# Altium footprint library ProjetPcbLib1.PcbLib: 18 footprints (part 1 of 2)
Each footprint in its own frame and in the unit in brackets; x right, y up, seen from the top. Pads: shape width x height; smd on the part's side, far side on the other; paste and mask are expansions set on the pad; w line width, h text height; cw(c..) or ccw(c..) is an arc to the next point about the centre after c.
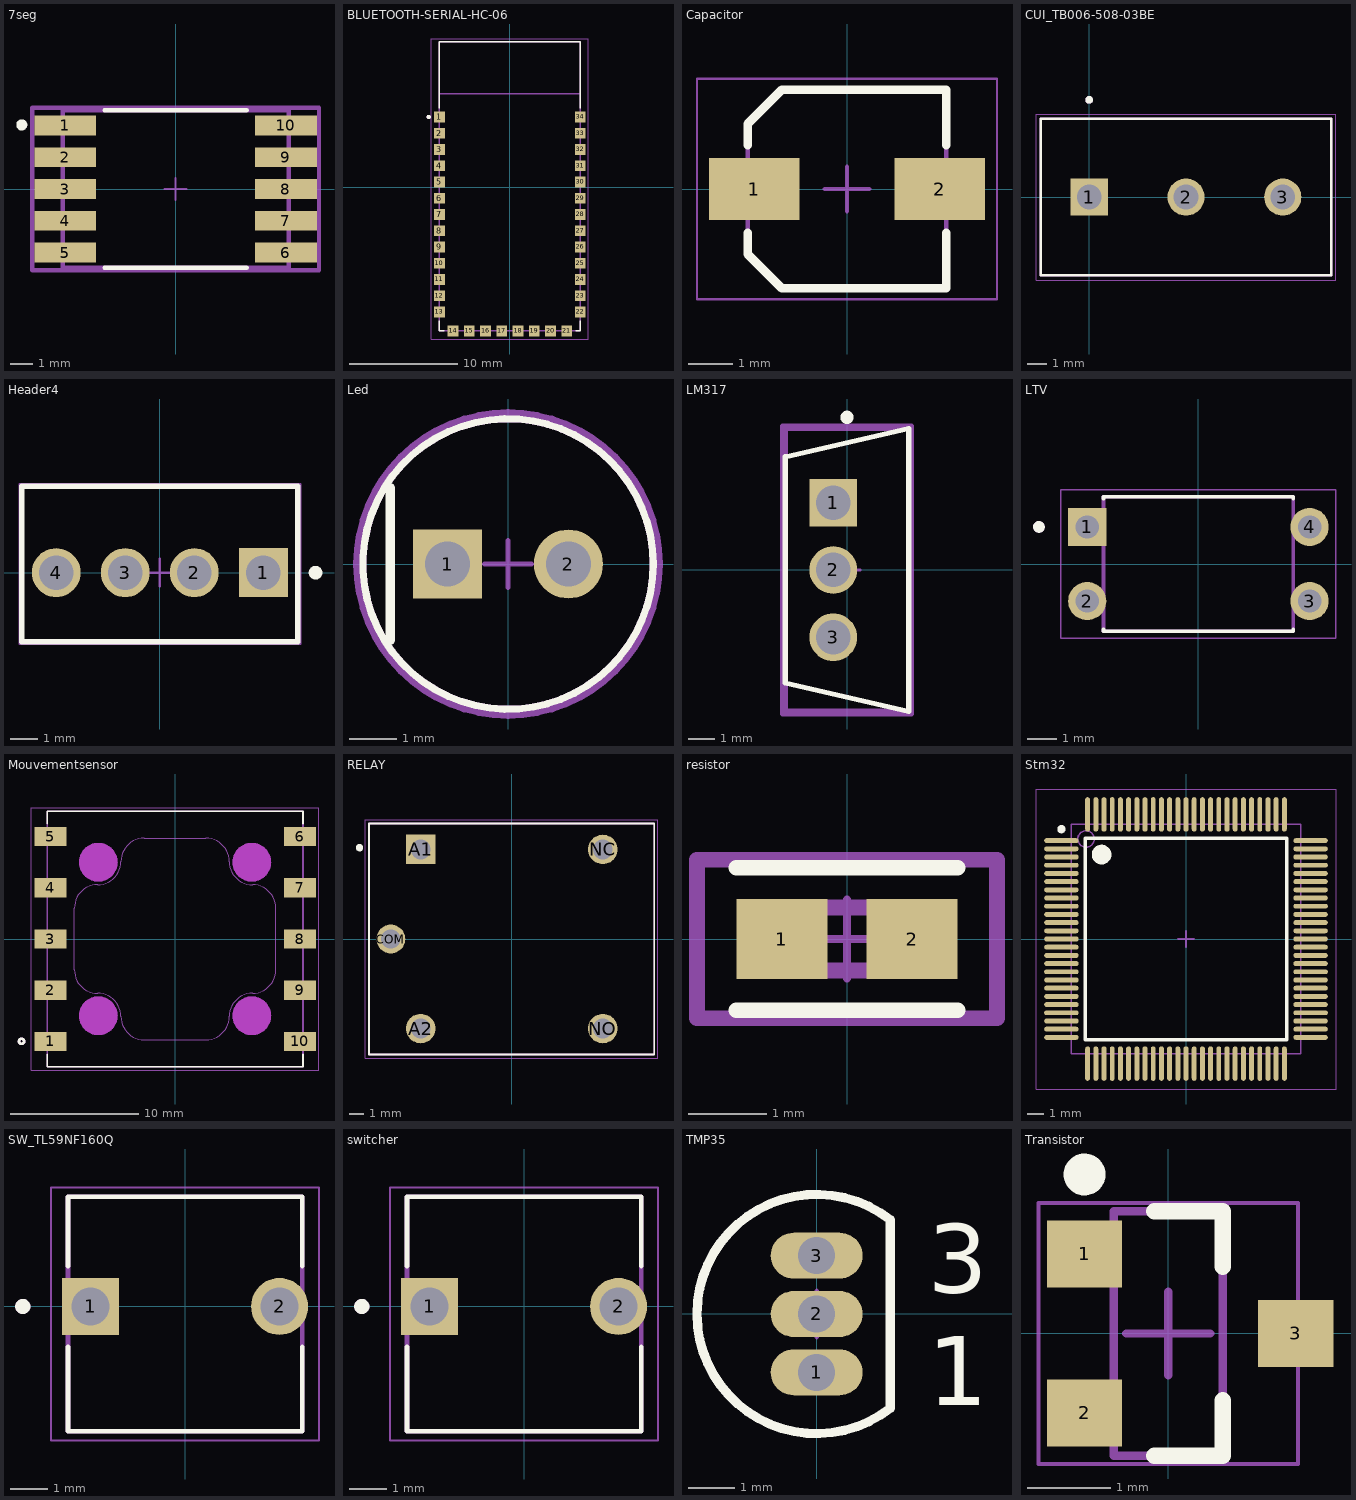
[diagram p0: the footprints below, top view; thin cyan lines are the x and y axes]

## 7seg [mm]
pads (10):
  rect 2.8x0.9 smd paste+0 mask+0: 1(-5,2.88) 2(-5,1.44) 3(-5,0) 4(-5,-1.44) 5(-5,-2.88) 6(5,-2.88) 7(5,-1.44) 8(5,0) 9(5,1.44) 10(5,2.88)
Top Overlay:
  circle w0.25: c-6.975,2.905 r0.125
  lines w0.2: -3.225,-3.575 3.225,-3.575 ; -3.225,3.575 3.225,3.575
Mechanical 5:
  lines w0.2: -6.5,-3.675 6.5,-3.675 6.5,3.675 -6.5,3.675 -6.5,-3.675
  text ".Designator" at 0,-0.001 h1
Mechanical 13:
  lines w0.2: -5.125,-3.575 5.125,-3.575 5.125,3.575 -5.125,3.575 -5.125,-3.575
Mechanical 15:
  lines w0.2: -6.5,-3.675 6.5,-3.675 6.5,3.675 -6.5,3.675 -6.5,-3.675
Mechanical 16:
  lines w0.1: -0.5,0 0.5,0 ; 0,-0.5 0,0.5
3D body "Disp_Kingbright_ACSC02-41SURKWA-F01_eec.STEP": height 0.25, standoff 0, extent -6.5,-3.675 6.5,3.675

## BLUETOOTH-SERIAL-HC-06 [mm]
height 2
pads (34):
  rect 1x1 smd: 1(-6.5,6.5) 2(-6.5,5) 3(-6.5,3.5) 4(-6.5,2) 5(-6.5,0.5) 6(-6.5,-1) 7(-6.5,-2.5) 8(-6.5,-4) 9(-6.5,-5.5) 10(-6.5,-7) 11(-6.5,-8.5) 12(-6.5,-10) 13(-6.5,-11.5) 14(-5.25,-13.25) 15(-3.75,-13.25) 16(-2.25,-13.25) 17(-0.75,-13.25) 18(0.75,-13.25) 19(2.25,-13.25) 20(3.75,-13.25) 21(5.25,-13.25) 22(6.5,-11.5) 23(6.5,-10) 24(6.5,-8.5) 25(6.5,-7) 26(6.5,-5.5) 27(6.5,-4) 28(6.5,-2.5) 29(6.5,-1) 30(6.5,0.5) 31(6.5,2) 32(6.5,3.5) 33(6.5,5) 34(6.5,6.5)
Top Overlay:
  circle w0.2: c-7.5,6.5 r0.1
  lines w0.127: -6.5,-12.314 -6.5,-13.25 -6.064,-13.25 ; -6.5,7.314 -6.5,13.45 6.5,13.45 6.5,7.314 ; 6.064,-13.25 6.5,-13.25 6.5,-12.314
Mechanical 13:
  circle w0.2: c-7.5,6.5 r0.1
  lines w0.127: -6.5,8.65 6.5,8.65 ; -6.5,8.65 -6.5,13.45 6.5,13.45 6.5,8.65 ; -6.5,8.65 -6.5,-13.25 6.5,-13.25 6.5,8.65
  text "ANTENNA" at -3.81,10.16 h1.27
Mechanical 15:
  lines w0.05: -7.25,-14 -7.25,13.7 7.25,13.7 7.25,-14 -7.25,-14
3D body "hc06.STEP": height 2.35, standoff 0, extent -7.01,-13.335 7.01,14.675

## Capacitor [mm] "Aluminum Electrolytic Capacitor, 2-Leads, Body 4.5x4.5mm, IPC High Density"
height 5.5
pads (2):
  rect 2.05x1.4 smd: 1(-2.1,0) 2(2.1,0)
Top Overlay:
  lines w0.2: -2.25,-1 -2.25,-1.475 -1.475,-2.25 2.25,-2.25 2.25,-1 ; -2.25,1 -2.25,1.475 -1.475,2.25 2.25,2.25 2.25,1
Mechanical 13:
  lines w0.1: -2.25,-1.475 -1.475,-2.25 2.25,-2.25 2.25,2.25 -1.475,2.25 -2.25,1.475 -2.25,-1.475
Mechanical 15:
  lines w0.05: -3.4,-2.5 -3.4,2.5 3.4,2.5 3.4,-2.5 -3.4,-2.5
  lines w0.1: -0.5,0 0.5,0 ; 0,-0.5 0,0.5
3D body "CAPAE5543X55L.step": height 5.5, standoff 0, extent -2.75,-2.25 2.75,2.25

## CUI_TB006-508-03BE [mm]
pads (3):
  rect 1.95x1.95 / inner round 1.95 / far side rect 1.95x1.95 hole 1.3: 1(0,0)
  round 1.95 hole 1.3: 2(5.08,0) 3(10.16,0)
Top Overlay:
  circle w0.2: c0,5.1 r0.1
  lines w0.127: -2.54,-4.1 12.7,-4.1 12.7,4.1 -2.54,4.1 -2.54,-4.1
Mechanical 13:
  circle w0.2: c0,5.1 r0.1
  lines w0.127: -2.54,-4.1 12.7,-4.1 12.7,4.1 -2.54,4.1 -2.54,-4.1
Mechanical 15:
  lines w0.05: -2.79,-4.35 -2.79,4.35 12.95,4.35 12.95,-4.35 -2.79,-4.35
3D body "step_temp.STEP": height 10, standoff -3.8, extent -3.04,-4.1 12.7,4.1

## Header4 [mm] "Through Hole, 4-Leads, Body 10.16x5.72mm, Pitch 2.54mm"
height 10.03
pads (4):
  rect 1.8x1.8 hole 1.27 paste+0: 1(3.81,0)
  round 1.8 hole 1.27 paste+0: 2(1.27,0) 3(-1.27,0) 4(-3.81,0)
Top Overlay:
  circle w0.25: c5.732,0 r0.127
  lines w0.2: -5.08,-2.54 -5.08,3.18 5.08,3.18 5.08,-2.54 -5.08,-2.54
Mechanical 13:
  lines w0.1: -5.08,-2.54 5.08,-2.54 5.08,3.18 -5.08,3.18 -5.08,-2.54
Mechanical 15:
  lines w0.05: -5.18,-2.64 -5.18,3.28 5.18,3.28 5.18,-2.64 -5.18,-2.64
  lines w0.1: -0.5,0 0.5,0 ; 0,-0.5 0,0.5
3D body: height 7.87, standoff 2.54, extent -3.81,1.651 3.81,3.18
3D body: height 2.54, standoff 0, extent -5.08,-2.54 5.08,3.175
3D body: height 10.03, standoff -3.56, extent -4.13,-0.32 -3.49,0.32
3D body: height 10.03, standoff -3.56, extent 3.49,-0.32 4.13,0.32
3D body: height 10.03, standoff -3.56, extent 0.95,-0.32 1.59,0.32
3D body: height 10.03, standoff -3.56, extent -1.59,-0.32 -0.95,0.32

## Led [mm]
pads (2):
  rect 1.45x1.45 hole 0.95 paste-1000 mask+0: 1(-1.27,0)
  round 1.45 hole 0.95 paste-1000 mask+0: 2(1.27,0)
Top Overlay:
  circle w0.15: c0,0 r3.05
  lines w0.2: -2.475,-1.6 -2.475,1.6
Mechanical 5:
  text ".Designator" at 0,0.188 h1
Mechanical 13:
  circle w0.15: c0,0 r3.05
Mechanical 15:
  lines w0.2: -3.15,0 cw(c0,0) 3.15,0 cw(c0,0) -3.15,0
Mechanical 16:
  lines w0.1: -0.5,0 0.5,0 ; 0,-0.5 0,0.5
3D body "Diode_Broadcom_HLMP-4700_eec.STEP": height 0.25, standoff 0, extent -3.15,-3.15 3.15,3.15

## LM317 [mm]
pads (3):
  rect 1.8x1.8 hole 1.3 paste-1000 mask+0: 1(-0.517,2.54)
  round 1.8 hole 1.3 paste-1000 mask+0: 2(-0.517,0) 3(-0.517,-2.54)
Top Overlay:
  circle w0.25: c0,5.76 r0.125
  lines w0.2: 2.325,-5.335 -2.325,-4.268 -2.325,4.268 2.325,5.335 ; 2.325,-5.285 2.325,5.285
Mechanical 5:
  lines w0.2: -2.425,-5.435 2.425,-5.435 2.425,5.435 -2.425,5.435 -2.425,-5.435
  text ".Designator" at 0,-0.001 h1
Mechanical 13:
  lines w0.2: -2.325,-5.335 2.325,-5.335 2.325,5.335 -2.325,5.335 -2.325,-5.335
Mechanical 15:
  lines w0.2: -2.425,-5.435 2.425,-5.435 2.425,5.435 -2.425,5.435 -2.425,-5.435
Mechanical 16:
  lines w0.1: -0.5,0 0.5,0 ; 0,-0.5 0,0.5
3D body "IC_Texas_Instruments_LM317KCT_eec.STEP": height 0.25, standoff 0, extent -2.425,-5.435 2.425,5.435

## LTV [mm]
height 4.5
pads (4):
  rect 1.308x1.308 / inner round 1.308 / far side rect 1.308x1.308 hole 0.8: 1(-3.81,1.27)
  round 1.308 hole 0.8: 2(-3.81,-1.27) 3(3.81,-1.27) 4(3.81,1.27)
Top Overlay:
  circle w0.2: c-5.464,1.27 r0.1
  lines w0.127: -3.25,-2.244 -3.25,-2.3 3.25,-2.3 3.25,-2.244 ; -3.25,2.244 -3.25,2.3 3.25,2.3 3.25,2.244
Mechanical 13:
  circle w0.2: c-5.464,1.27 r0.1
  lines w0.127: -3.25,-2.3 -3.25,2.3 3.25,2.3 3.25,-2.3 -3.25,-2.3
Mechanical 15:
  lines w0.05: -4.714,-2.55 4.714,-2.55 4.714,2.55 -4.714,2.55 -4.714,-2.55
3D body "step_temp.STEP": height 5, standoff -3.3, extent -3.985,-2.3 3.985,2.3

## Mouvementsensor [mm]
pads (10):
  rect 2.5x1.5 smd: 1(-9.75,-8) 2(-9.75,-4) 3(-9.75,0) 4(-9.75,4) 5(-9.75,8) 6(9.75,8) 7(9.75,4) 8(9.75,0) 9(9.75,-4) 10(9.75,-8)
Top Overlay:
  circle w0.2: c-12,-8 r0.2
  lines w0.127: -10,-9 -10,-10 10,-10 10,-9 ; -10,9 -10,10 10,10 10,9
Keep-Out Layer:
  drawing of 8 lines, arcs and shapes, not listed
Mechanical 1:
  lines w0: -7.875,-2.415 ccw(c-6.055,-2.415) -6.055,-4.235 cw(c-6.055,-6.055) -4.235,-6.055 ccw(c-2.415,-6.055) -2.415,-7.875 2.415,-7.875 ccw(c2.415,-6.055) 4.235,-6.055 cw(c6.055,-6.055) 6.055,-4.235 ccw(c6.055,-2.415) 7.875,-2.415 7.875,2.415 ccw(c6.055,2.415) 6.055,4.235 cw(c6.055,6.055) 4.235,6.055 ccw(c2.415,6.055) 2.415,7.875 -2.415,7.875 ccw(c-2.415,6.055) -4.235,6.055 cw(c-6.055,6.055) -6.055,4.235 ccw(c-6.055,2.415) -7.875,2.415 -7.875,-2.415
Mechanical 13:
  circle w0.2: c-12,-8 r0.2
  lines w0.127: -10,-10 -10,10 10,10 10,-10 -10,-10
Mechanical 15:
  drawing of 11 lines, arcs and shapes, not listed
3D body "110-407--3DModel-STEP-56544.STEP": height 2.84, standoff -0.27, extent -9.75,-10 10.25,10

## RELAY [mm]
pads (5):
  rect 1.98x1.98 / inner round 1.98 / far side rect 1.98x1.98 hole 1.32: A1(-6.1,6)
  round 1.98 hole 1.32: A2(-6.1,-6) NC(6.1,6) NO(6.1,-6)
  round 1.935 hole 1.29: COM(-8.1,0)
Top Overlay:
  circle w0.3: c-10.2,6.119 r0.1
  lines w0.127: -9.55,-7.75 -9.55,7.75 9.55,7.75 9.55,-7.75 -9.55,-7.75
Mechanical 13:
  lines w0.127: -9.55,-7.75 -9.55,7.75 9.55,7.75 9.55,-7.75 -9.55,-7.75
Mechanical 15:
  lines w0.05: -9.8,-8 -9.8,8 9.8,8 9.8,-8 -9.8,-8
3D body "step_temp.STEP": height 15.8, standoff -3, extent -9.6,-7.8 9.6,7.8

## resistor [mm]
pads (2):
  rect 1.158x1.012 smd paste+0 mask+0: 1(-0.827,0) 2(0.827,0)
Top Overlay:
  lines w0.2: -1.406,-0.906 1.406,-0.906 ; -1.406,0.906 1.406,0.906
Mechanical 5:
  lines w0.2: -1.906,-1.006 -1.906,1.006 1.906,1.006 1.906,-1.006 -1.906,-1.006
  text ".Designator" at 0,0.188 h1
Mechanical 13:
  lines w0.2: -0.8,-0.4 -0.8,0.4 0.8,0.4 0.8,-0.4 -0.8,-0.4
Mechanical 15:
  lines w0.2: -1.906,-1.006 -1.906,1.006 1.906,1.006 1.906,-1.006 -1.906,-1.006
Mechanical 16:
  lines w0.1: -0.5,0 0.5,0 ; 0,-0.5 0,0.5
3D body "Res_Rohm_ESR03EZPJ101_eec.STEP": height 0.25, standoff 0, extent -1.906,-1.006 1.906,1.006

## Stm32 [mm] "Thin QFP, 100-Leads, Body 14x14mm, Pitch 0.5mm, IPC Low Density"
height 1.6
pads (100):
  oval 2.1x0.3 smd: 1(-7.6,6) 2(-7.6,5.5) 3(-7.6,5) 4(-7.6,4.5) 5(-7.6,4) 6(-7.6,3.5) 7(-7.6,3) 8(-7.6,2.5) 9(-7.6,2) 10(-7.6,1.5) 11(-7.6,1) 12(-7.6,0.5) 13(-7.6,0) 14(-7.6,-0.5) 15(-7.6,-1) 16(-7.6,-1.5) 17(-7.6,-2) 18(-7.6,-2.5) 19(-7.6,-3) 20(-7.6,-3.5) 21(-7.6,-4) 22(-7.6,-4.5) 23(-7.6,-5) 24(-7.6,-5.5) 25(-7.6,-6) 51(7.6,-6) 52(7.6,-5.5) 53(7.6,-5) 54(7.6,-4.5) 55(7.6,-4) 56(7.6,-3.5) 57(7.6,-3) 58(7.6,-2.5) 59(7.6,-2) 60(7.6,-1.5) 61(7.6,-1) 62(7.6,-0.5) 63(7.6,0) 64(7.6,0.5) 65(7.6,1) 66(7.6,1.5) 67(7.6,2) 68(7.6,2.5) 69(7.6,3) 70(7.6,3.5) 71(7.6,4) 72(7.6,4.5) 73(7.6,5) 74(7.6,5.5) 75(7.6,6)
  oval 0.3x2.1 smd: 26(-6,-7.6) 27(-5.5,-7.6) 28(-5,-7.6) 29(-4.5,-7.6) 30(-4,-7.6) 31(-3.5,-7.6) 32(-3,-7.6) 33(-2.5,-7.6) 34(-2,-7.6) 35(-1.5,-7.6) 36(-1,-7.6) 37(-0.5,-7.6) 38(0,-7.6) 39(0.5,-7.6) 40(1,-7.6) 41(1.5,-7.6) 42(2,-7.6) 43(2.5,-7.6) 44(3,-7.6) 45(3.5,-7.6) 46(4,-7.6) 47(4.5,-7.6) 48(5,-7.6) 49(5.5,-7.6) 50(6,-7.6) 76(6,7.6) 77(5.5,7.6) 78(5,7.6) 79(4.5,7.6) 80(4,7.6) 81(3.5,7.6) 82(3,7.6) 83(2.5,7.6) 84(2,7.6) 85(1.5,7.6) 86(1,7.6) 87(0.5,7.6) 88(0,7.6) 89(-0.5,7.6) 90(-1,7.6) 91(-1.5,7.6) 92(-2,7.6) 93(-2.5,7.6) 94(-3,7.6) 95(-3.5,7.6) 96(-4,7.6) 97(-4.5,7.6) 98(-5,7.6) 99(-5.5,7.6) 100(-6,7.6)
Top Overlay:
  circle w0.6: c-5.15,5.15 r0.3
  circle w0.25: c-7.6,6.7 r0.125
  lines w0.2: -6.15,-6.15 6.15,-6.15 6.15,6.15 -6.15,6.15 -6.15,-6.15
Mechanical 13:
  circle w0.1: c-6.1,6.1 r0.5
  lines w0.1: -7,-7 7,-7 7,7 -7,7 -7,-7
Mechanical 15:
  lines w0.05: -9.15,-9.15 9.15,-9.15 9.15,9.15 -9.15,9.15 -9.15,-9.15
  lines w0.1: -0.5,0 0.5,0 ; 0,-0.5 0,0.5
3D body: height 1.6, standoff 0.05, extent -7,-7 7,7

## SW_TL59NF160Q [mm]
height 4.3
pads (2):
  rect 1.508x1.508 / inner round 1.508 / far side rect 1.508x1.508 hole 1: 1(-2.5,0)
  round 1.508 hole 1: 2(2.5,0)
Top Overlay:
  circle w0.2: c-4.294,0 r0.1
  lines w0.127: -3.1,-1.074 -3.1,-3.3 3.1,-3.3 3.1,-1.074 ; -3.1,1.074 -3.1,2.9 3.1,2.9 3.1,1.074
Mechanical 13:
  circle w0.2: c-4.294,0 r0.1
  lines w0.127: -3.1,-3.3 -3.1,2.9 3.1,2.9 3.1,-3.3 -3.1,-3.3
Mechanical 15:
  lines w0.05: -3.544,-3.55 3.544,-3.55 3.544,3.15 -3.544,3.15 -3.544,-3.55
3D body "step_temp.STEP": height 4.3, standoff -13.65, extent -3.1,-3.3 3.1,2.9

## switcher [mm]
height 4.3
pads (2):
  rect 1.508x1.508 / inner round 1.508 / far side rect 1.508x1.508 hole 1: 1(-2.5,0)
  round 1.508 hole 1: 2(2.5,0)
Top Overlay:
  circle w0.2: c-4.294,0 r0.1
  lines w0.127: -3.1,-1.074 -3.1,-3.3 3.1,-3.3 3.1,-1.074 ; -3.1,1.074 -3.1,2.9 3.1,2.9 3.1,1.074
Mechanical 13:
  circle w0.2: c-4.294,0 r0.1
  lines w0.127: -3.1,-3.3 3.1,-3.3 3.1,2.9 -3.1,2.9 -3.1,-3.3
Mechanical 15:
  lines w0.05: -3.544,-3.55 -3.544,3.15 3.544,3.15 3.544,-3.55 -3.544,-3.55
3D body "step_temp.STEP": height 4.3, standoff -13.65, extent -3.1,-3.3 3.1,2.9

## TMP35 [mm] "TO, Flat Index; 3 In-Line, Axial Leads; Body Dia. 5.1mm; Leads 0.48 x 0.48 mm (max)"
height 5.33
pads (3):
  oval 2x1 hole 0.8: 1(0,-1.27) 2(0,0) 3(0,1.27)
Top Overlay:
  lines w0.2: 1.601,-2.049 cw(c0,0) 1.601,2.049 1.6,-2.049
  text "3" at 2.421,0.467 h1.5
  text "1" at 2.421,-1.979 h1.5
Mechanical 13:
  lines w0.1: 1.601,-2.049 cw(c0,0) 1.601,2.049 1.6,-2.049
Mechanical 15:
  lines w0.1: -0.5,0 0.5,0 ; 0,-0.5 0,0.5
3D body: height 5.33, standoff 0, extent -2.599,-2.611 1.6,2.611

## Transistor [mm] "SOT23, 3-Leads, Body 2.92x1.3mm, Pitch 0.95mm"
height 1.11
pads (3):
  rect 0.9x0.8 smd: 1(-1,0.95) 2(-1,-0.95) 3(1.524,0)
Top Overlay:
  circle w0.25: c-1,1.9 r0.125
  lines w0.2: -0.165,-1.46 0.65,-1.46 0.65,-0.8 ; -0.165,1.46 0.65,1.46 0.65,0.8
Mechanical 13:
  lines w0.1: -0.65,-1.46 0.65,-1.46 0.65,1.46 -0.65,1.46 -0.65,-1.46
Mechanical 15:
  lines w0.05: -1.55,-1.56 1.55,-1.56 1.55,1.56 -1.55,1.56 -1.55,-1.56
  lines w0.1: -0.5,0 0.5,0 ; 0,-0.5 0,0.5
3D body "FMMT718TA.STEP": height 1.15, standoff 0, extent -1.073,-1.45 1.327,1.45